# Altium footprint library 贴片陶瓷电容.PcbLib: 19 footprints (part 1 of 2)
Each footprint in its own frame and in the unit in brackets; x right, y up, seen from the top. Pads: shape width x height; smd on the part's side, far side on the other; paste and mask are expansions set on the pad; w line width, h text height; cw(c..) or ccw(c..) is an arc to the next point about the centre after c.
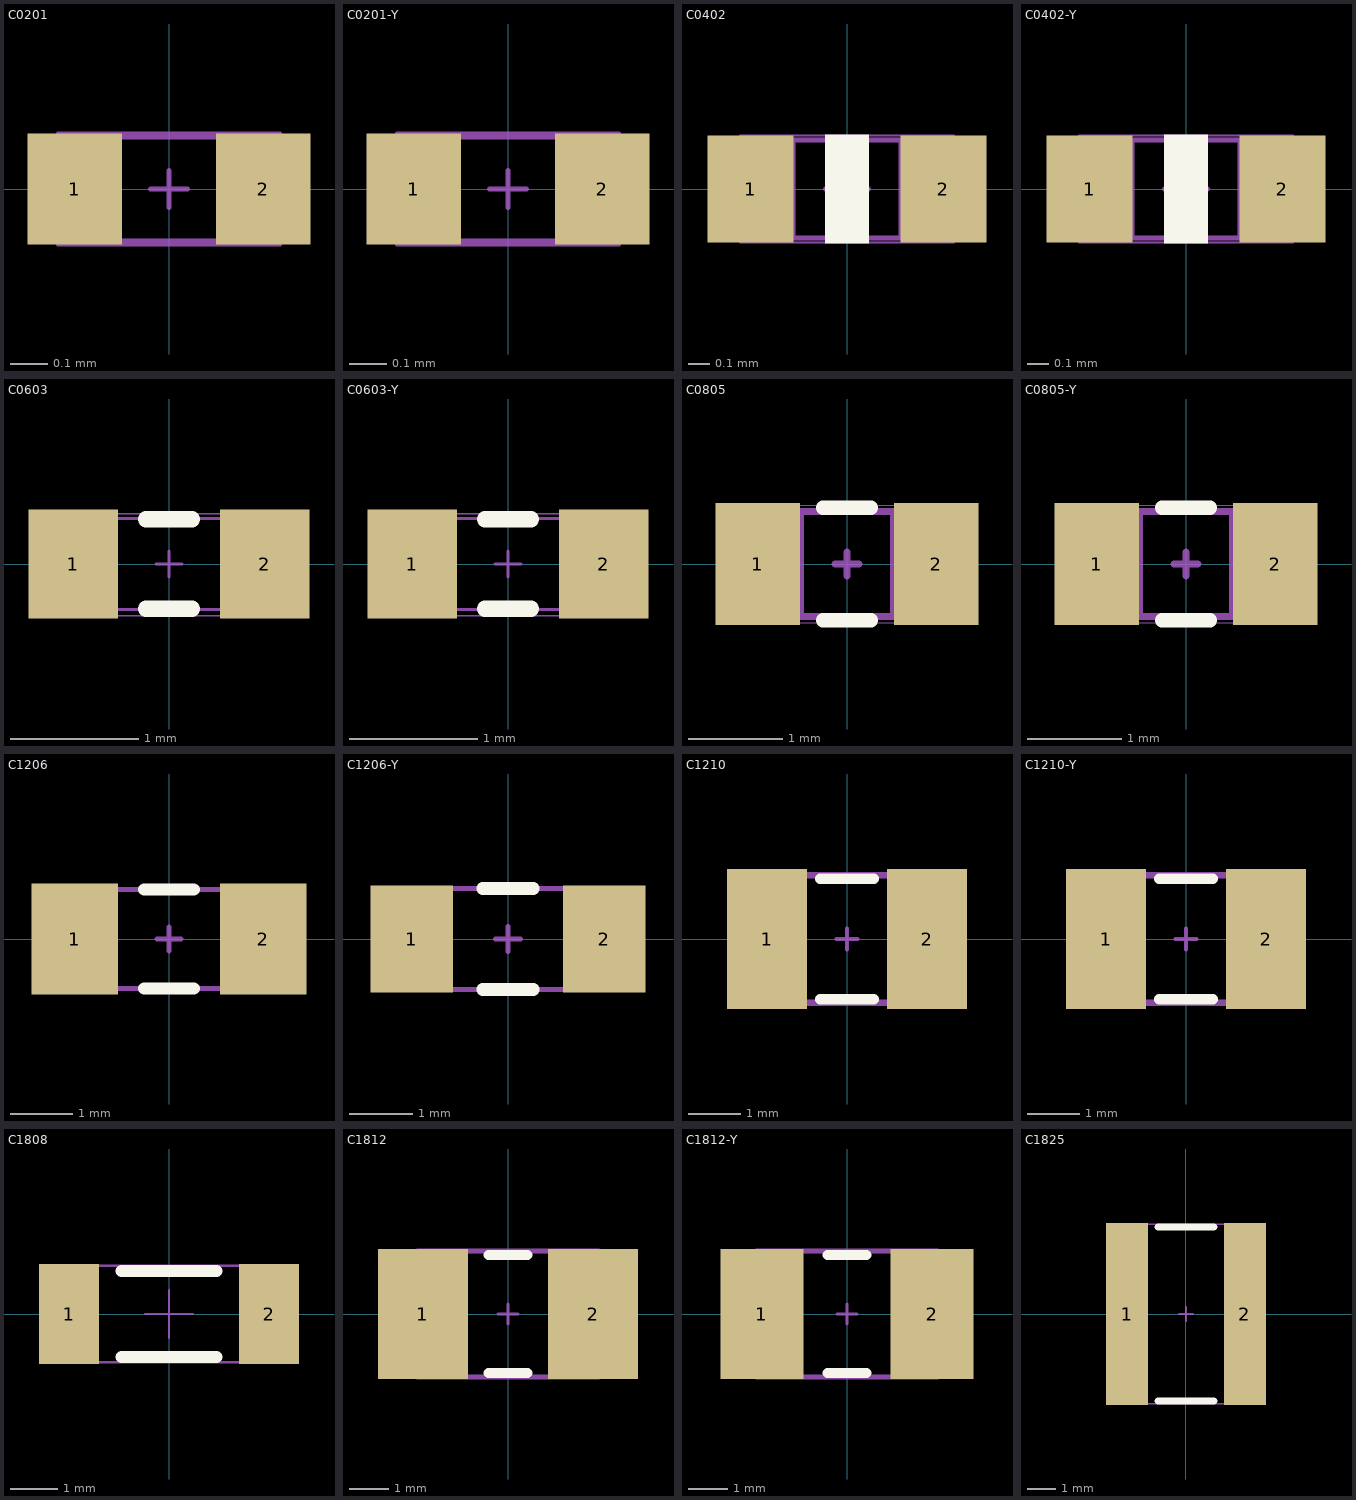
[diagram p0: the footprints below, top view; thin cyan lines are the x and y axes]

## C0201 [mil] "英制0201封装 电容"
height 9.06
pads (2):
  rect 10x11.81 smd: 1(-10,0) 2(10,0)
Mechanical 13:
  lines w0.39: -11.81,-5.91 -11.81,5.91 11.81,5.91 11.81,-5.91 -11.81,-5.91
Mechanical 15:
  lines w0.49: -6,-5.51 -6,5.51 ; -2,0 0,0 ; 0,-2 0,0 ; 0,2 0,0 ; 2,0 0,0 ; 6,-5.51 6,5.51 ; -11.81,-5.51 -11.81,5.51 11.81,5.51 11.81,-5.51 -11.81,-5.51
3D body: height 11.81, standoff 0, extent -11.81,-5.91 11.81,5.91

## C0201-Y [mil] "黄色贴片电容"
height 9.06
pads (2):
  rect 10x11.81 smd: 1(-10,0) 2(10,0)
Mechanical 13:
  lines w0.39: -11.81,-5.91 -11.81,5.91 11.81,5.91 11.81,-5.91 -11.81,-5.91
Mechanical 15:
  lines w0.49: -6,-5.51 -6,5.51 ; -2,0 0,0 ; 0,-2 0,0 ; 0,2 0,0 ; 2,0 0,0 ; 6,-5.51 6,5.51 ; -11.81,-5.51 -11.81,5.51 11.81,5.51 11.81,-5.51 -11.81,-5.51
3D body: height 11.81, standoff 0, extent -11.81,-5.91 11.81,5.91

## C0402 [mm] "英制0402封装 电容"
height 0.559
pads (2):
  rect 0.4x0.5 smd: 1(-0.45,0) 2(0.45,0)
Top Overlay:
  rectangle: -0.102,-0.254 0.102,0.254
Mechanical 13:
  lines w0.01: -0.5,-0.25 0.5,-0.25 0.5,0.25 -0.5,0.25 -0.5,-0.25
Mechanical 15:
  lines w0.025: -0.254,-0.229 -0.254,0.229 ; -0.1,0 0.1,0 ; 0,-0.1 0,0.1 ; 0.254,-0.229 0.254,0.229 ; -0.5,-0.229 -0.5,0.229 0.5,0.229 0.5,-0.229 -0.5,-0.229
3D body: height 0.4, standoff 0, extent -0.5,-0.25 0.5,0.25

## C0402-Y [mm] "黄色贴片电容"
height 0.559
pads (2):
  rect 0.4x0.5 smd: 1(-0.45,0) 2(0.45,0)
Top Overlay:
  rectangle: -0.102,-0.254 0.102,0.254
Mechanical 13:
  lines w0.01: -0.5,-0.25 0.5,-0.25 0.5,0.25 -0.5,0.25 -0.5,-0.25
Mechanical 15:
  lines w0.025: -0.254,-0.229 -0.254,0.229 ; -0.1,0 0.1,0 ; 0,-0.1 0,0.1 ; 0.254,-0.229 0.254,0.229 ; -0.5,-0.229 -0.5,0.229 0.5,0.229 0.5,-0.229 -0.5,-0.229
3D body: height 0.5, standoff 0, extent -0.5,-0.25 0.5,0.25

## C0603 [mm] "VISHAY VJ贴片电容"
height 0.92
pads (2):
  rect 0.7x0.85 smd: 1(-0.75,0) 2(0.75,0)
Top Overlay:
  lines w0.127: -0.18,-0.35 0.18,-0.35 ; -0.18,0.35 0.18,0.35
Mechanical 13:
  lines w0.01: -0.8,-0.406 0.8,-0.406 0.8,0.394 -0.8,0.394 -0.8,-0.406
Mechanical 15:
  lines w0.025: -0.445,-0.356 -0.445,0.356 ; -0.1,0 0.1,0 ; 0,-0.1 0,0.1 ; 0.445,-0.356 0.445,0.356 ; -0.813,-0.356 0.813,-0.356 0.813,0.356 -0.813,0.356 -0.813,-0.356
3D body: height 0.61, standoff 0.01, extent -0.8,-0.406 0.8,0.394

## C0603-Y [mm] "黄色贴片电容"
height 0.92
pads (2):
  rect 0.7x0.85 smd: 1(-0.75,0) 2(0.75,0)
Top Overlay:
  lines w0.127: -0.18,-0.35 0.18,-0.35 ; -0.18,0.35 0.18,0.35
Mechanical 13:
  lines w0.01: -0.8,-0.406 -0.8,0.394 0.8,0.394 0.8,-0.406 -0.8,-0.406
Mechanical 15:
  lines w0.025: -0.445,-0.356 -0.445,0.356 ; -0.1,0 0.1,0 ; 0,-0.1 0,0.1 ; 0.445,-0.356 0.445,0.356 ; -0.813,-0.356 -0.813,0.356 0.813,0.356 0.813,-0.356 -0.813,-0.356
3D body: height 0.8, standoff 0, extent -0.8,-0.406 0.8,0.394

## C0805 [mm] "VISHAY VJ贴片电容"
height 1.45
pads (2):
  rect 0.9x1.3 smd: 1(-0.95,0) 2(0.95,0)
Top Overlay:
  lines w0.15: -0.254,-0.6 0.254,-0.6 ; -0.254,0.6 0.254,0.6
Mechanical 13:
  lines w0.01: -1,-0.625 -1,0.625 1,0.625 1,-0.625 -1,-0.625
Mechanical 15:
  lines w0.076: -0.495,-0.559 -0.495,0.559 ; -0.127,0 0.127,0 ; 0,-0.127 0,0.127 ; 0.495,-0.559 0.495,0.559 ; -1.016,-0.559 -1.016,0.559 1.016,0.559 1.016,-0.559 -1.016,-0.559
3D body: height 0.8, standoff 0, extent -1,-0.625 1,0.625

## C0805-Y [mm] "黄色贴片电容"
height 1.45
pads (2):
  rect 0.9x1.3 smd: 1(-0.95,0) 2(0.95,0)
Top Overlay:
  lines w0.15: -0.254,-0.6 0.254,-0.6 ; -0.254,0.6 0.254,0.6
Mechanical 13:
  lines w0.01: -1,-0.625 1,-0.625 1,0.625 -1,0.625 -1,-0.625
Mechanical 15:
  lines w0.076: -0.495,-0.559 -0.495,0.559 ; -0.127,0 0.127,0 ; 0,-0.127 0,0.127 ; 0.495,-0.559 0.495,0.559 ; -1.016,-0.559 1.016,-0.559 1.016,0.559 -1.016,0.559 -1.016,-0.559
3D body: height 1.27, standoff 0.02, extent -1,-0.625 1,0.625

## C1206 [mil] "VISHAY VJ贴片电容"
height 66.93
pads (2):
  rect 55x70.87 smd: 1(-60,0) 2(60,0)
Top Overlay:
  lines w7.87: -15.75,-31.5 15.75,-31.5 ; -15.75,31.5 15.75,31.5
Mechanical 13:
  lines w0.39: -62.99,-31.5 -62.99,31.49 62.99,31.49 62.99,-31.5 -62.99,-31.5
Mechanical 15:
  lines w3: -43,-29 -43,29 ; -7.87,0 7.87,0 ; 0,-7.87 0,7.87 ; 43,-29 43,29 ; -62.99,-31.5 -62.99,31.5 62.99,31.5 62.99,-31.5 -62.99,-31.5
3D body: height 39.37, standoff 0, extent -62.99,-31.5 62.99,31.49

## C1206-Y [mm] "黄色贴片电容"
height 1.7
pads (2):
  rect 1.3x1.7 smd: 1(-1.524,0) 2(1.524,0)
Top Overlay:
  lines w0.2: -0.4,-0.8 0.4,-0.8 ; -0.4,0.8 0.4,0.8
Mechanical 13:
  lines w0.01: -1.6,-0.8 1.6,-0.8 1.6,0.8 -1.6,0.8 -1.6,-0.8
Mechanical 15:
  lines w0.076: -1.092,-0.737 -1.092,0.737 ; -0.2,0 0.2,0 ; 0,-0.2 0,0.2 ; 1.092,-0.737 1.092,0.737 ; -1.6,-0.8 1.6,-0.8 1.6,0.8 -1.6,0.8 -1.6,-0.8
3D body: height 1.27, standoff 0.02, extent -1.6,-0.8 1.6,0.8

## C1210 [mil] "VISHAY VJ贴片电容"
height 66.93
pads (2):
  rect 60x105 smd: 1(-60,0) 2(60,0)
Top Overlay:
  lines w7.87: -20,-45.21 20,-45.21 ; -20,45.21 20,45.21
Mechanical 13:
  lines w1.97: -62.98,-49.2 -62.98,49.23 63,49.23 63,-49.2 -62.98,-49.2
Mechanical 15:
  lines w3: -43,-47 -43,47 ; -7.87,0 7.87,0 ; 0,-7.87 0,7.87 ; 43,-47 43,47 ; -63,-47 -63,47 63,47 63,43 63,-47 -63,-47
3D body: height 50.59, standoff 0.59, extent -62.98,-49.2 63,49.23

## C1210-Y [mil] "黄色贴片电容"
height 66.93
pads (2):
  rect 60x105 smd: 1(-60,0) 2(60,0)
Top Overlay:
  lines w7.87: -20,-45.21 20,-45.21 ; -20,45.21 20,45.21
Mechanical 13:
  lines w1.97: -62.98,-49.2 63,-49.2 63,49.23 -62.98,49.23 -62.98,-49.2
Mechanical 15:
  lines w3: -43,-47 -43,47 ; -7.87,0 7.87,0 ; 0,-7.87 0,7.87 ; 43,-47 43,47 ; -63,-47 63,-47 63,43 63,47 -63,47 -63,-47
3D body: height 78.74, standoff 0, extent -62.98,-49.2 63,49.23

## C1808 [mm] "VISHAY VJ贴片电容"
height 2.18
pads (2):
  rect 1.27x2.1 smd: 1(-2.1,0) 2(2.1,0)
Top Overlay:
  lines w0.254: -1,-0.9 1,-0.9 ; -1,0.9 1,0.9
Mechanical 13:
  lines w0.05: -2.25,-1.014 2.25,-1.014 2.25,1.016 -2.25,1.016 -2.25,-1.014
Mechanical 15:
  lines w0.05: -0.5,0 0.5,0 ; 0,-0.5 0,0.5
3D body: height 1.4, standoff 0, extent -2.25,-1.014 2.25,1.016

## C1812 [mil] "VISHAY VJ贴片电容"
height 86.61
pads (2):
  rect 90x129.92 smd: 1(-85,0) 2(85,0)
Top Overlay:
  lines w10: -19.68,-59.06 19.68,-59.06 ; -19.68,59.06 19.68,59.06
Mechanical 13:
  lines w1.97: -88.67,-63 -88.67,62.98 88.5,62.98 88.5,-63 -88.67,-63
Mechanical 15:
  lines w3: -10,0 10,0 ; 0,-10 0,10
  lines w5: -49,-63 -49,63 ; 49,-63 49,63 ; -90.5,-63 -90.5,63 90.5,63 90.5,-63 -90.5,-63
3D body: height 70.87, standoff 0, extent -88.67,-63 88.5,62.98

## C1812-Y [mm] "黄色贴片电容"
height 2.5
pads (2):
  rect 2.1x3.3 smd: 1(-2.159,0) 2(2.159,0)
Top Overlay:
  lines w0.254: -0.5,-1.5 0.5,-1.5 ; -0.5,1.5 0.5,1.5
Mechanical 13:
  lines w0.05: -2.252,-1.6 -2.252,1.6 2.248,1.6 2.248,-1.6 -2.252,-1.6
Mechanical 15:
  lines w0.076: -0.254,0 0.254,0 ; 0,-0.254 0,0.254
  lines w0.127: -1.245,-1.6 -1.245,1.6 ; 1.245,-1.6 1.245,1.6 ; -2.299,-1.6 -2.299,1.6 2.299,1.6 2.299,-1.6 -2.299,-1.6
3D body: height 2.52, standoff 0.02, extent -2.252,-1.6 2.248,1.6

## C1825 [mm] "VISHAY VJ贴片电容"
height 2.2
pads (2):
  rect 1.5x6.5 smd: 1(-2.1,0) 2(2.1,0)
Top Overlay:
  lines w0.254: -1,-3.1 1,-3.1 ; -1,3.1 1,3.1
Mechanical 13:
  lines w0.05: -2.25,-3.2 2.25,-3.2 2.25,3.2 -2.25,3.2 -2.25,-3.2
Mechanical 15:
  lines w0.076: -0.254,0 0.254,0 ; 0,-0.254 0,0.254
3D body: height 1.8, standoff 0, extent -2.25,-3.2 2.25,3.2